# Altium schematic symbol library diode_sch_A12C3.Schlib: 1 symbol
Pins are listed as number, name and electrical type; pins without a type are passive.

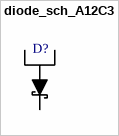
[diagram p0: symbol diode_sch_A12C3]

## diode_sch_A12C3
designator D?  (value not drawn)
Schottky, Dual Anode (A12, C3)
pins: 1, 2, 3